# Altium schematic symbol library SCH - MCU - INFINEON XMC - INFINEON XMC4200Q48.SchLib: 1 symbol
Pins are listed as number, name and electrical type; pins without a type are passive.

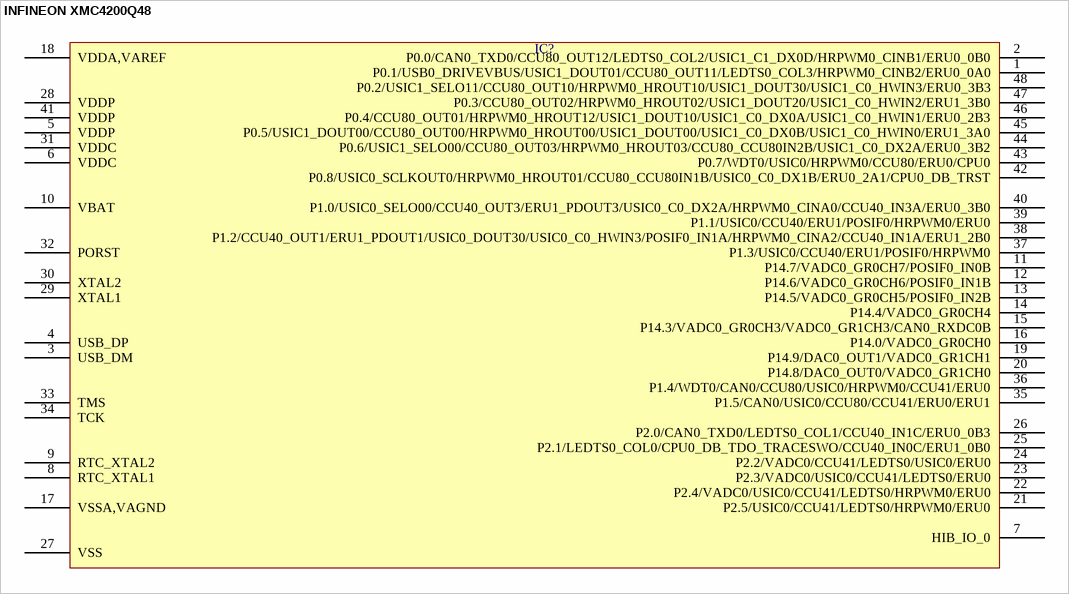
[diagram p0: symbol INFINEON XMC4200Q48]

## INFINEON XMC4200Q48
designator IC?  (value not drawn)
pins: 1 P0.1/USB0_DRIVEVBUS/USIC1_DOUT01/CCU80_OUT11/LEDTS0_COL3/HRPWM0_CINB2/ERU0_0A0, 2 P0.0/CAN0_TXD0/CCU80_OUT12/LEDTS0_COL2/USIC1_C1_DX0D/HRPWM0_CINB1/ERU0_0B0, 3 USB_DM, 4 USB_DP, 5 VDDP, 6 VDDC, 7 HIB_IO_0, 8 RTC_XTAL1, 9 RTC_XTAL2, 10 VBAT, 11 P14.7/VADC0_GR0CH7/POSIF0_IN0B, 12 P14.6/VADC0_GR0CH6/POSIF0_IN1B, 13 P14.5/VADC0_GR0CH5/POSIF0_IN2B, 14 P14.4/VADC0_GR0CH4, 15 P14.3/VADC0_GR0CH3/VADC0_GR1CH3/CAN0_RXDC0B, 16 P14.0/VADC0_GR0CH0, 17 VSSA,VAGND, 18 VDDA,VAREF, 19 P14.9/DAC0_OUT1/VADC0_GR1CH1, 20 P14.8/DAC0_OUT0/VADC0_GR1CH0, 21 P2.5/USIC0/CCU41/LEDTS0/HRPWM0/ERU0, 22 P2.4/VADC0/USIC0/CCU41/LEDTS0/HRPWM0/ERU0, 23 P2.3/VADC0/USIC0/CCU41/LEDTS0/ERU0, 24 P2.2/VADC0/CCU41/LEDTS0/USIC0/ERU0, 25 P2.1/LEDTS0_COL0/CPU0_DB_TDO_TRACESWO/CCU40_IN0C/ERU1_0B0, 26 P2.0/CAN0_TXD0/LEDTS0_COL1/CCU40_IN1C/ERU0_0B3, 27 VSS, 28 VDDP, 29 XTAL1, 30 XTAL2, 31 VDDC, 32 PORST, 33 TMS, 34 TCK, 35 P1.5/CAN0/USIC0/CCU80/CCU41/ERU0/ERU1, 36 P1.4/WDT0/CAN0/CCU80/USIC0/HRPWM0/CCU41/ERU0, 37 P1.3/USIC0/CCU40/ERU1/POSIF0/HRPWM0, 38 P1.2/CCU40_OUT1/ERU1_PDOUT1/USIC0_DOUT30/USIC0_C0_HWIN3/POSIF0_IN1A/HRPWM0_CINA2/CCU40_IN1A/ERU1_2B0, 39 P1.1/USIC0/CCU40/ERU1/POSIF0/HRPWM0/ERU0, 40 P1.0/USIC0_SELO00/CCU40_OUT3/ERU1_PDOUT3/USIC0_C0_DX2A/HRPWM0_CINA0/CCU40_IN3A/ERU0_3B0, 41 VDDP, 42 P0.8/USIC0_SCLKOUT0/HRPWM0_HROUT01/CCU80_CCU80IN1B/USIC0_C0_DX1B/ERU0_2A1/CPU0_DB_TRST, 43 P0.7/WDT0/USIC0/HRPWM0/CCU80/ERU0/CPU0, 44 P0.6/USIC1_SELO00/CCU80_OUT03/HRPWM0_HROUT03/CCU80_CCU80IN2B/USIC1_C0_DX2A/ERU0_3B2, 45 P0.5/USIC1_DOUT00/CCU80_OUT00/HRPWM0_HROUT00/USIC1_DOUT00/USIC1_C0_DX0B/USIC1_C0_HWIN0/ERU1_3A0, 46 P0.4/CCU80_OUT01/HRPWM0_HROUT12/USIC1_DOUT10/USIC1_C0_DX0A/USIC1_C0_HWIN1/ERU0_2B3, 47 P0.3/CCU80_OUT02/HRPWM0_HROUT02/USIC1_DOUT20/USIC1_C0_HWIN2/ERU1_3B0, 48 P0.2/USIC1_SELO11/CCU80_OUT10/HRPWM0_HROUT10/USIC1_DOUT30/USIC1_C0_HWIN3/ERU0_3B3